# Altium footprint library c1210.PcbLib: 1 footprints
Each footprint in its own frame and in the unit in brackets; x right, y up, seen from the top. Pads: shape width x height; smd on the part's side, far side on the other; paste and mask are expansions set on the pad; w line width, h text height; cw(c..) or ccw(c..) is an arc to the next point about the centre after c.
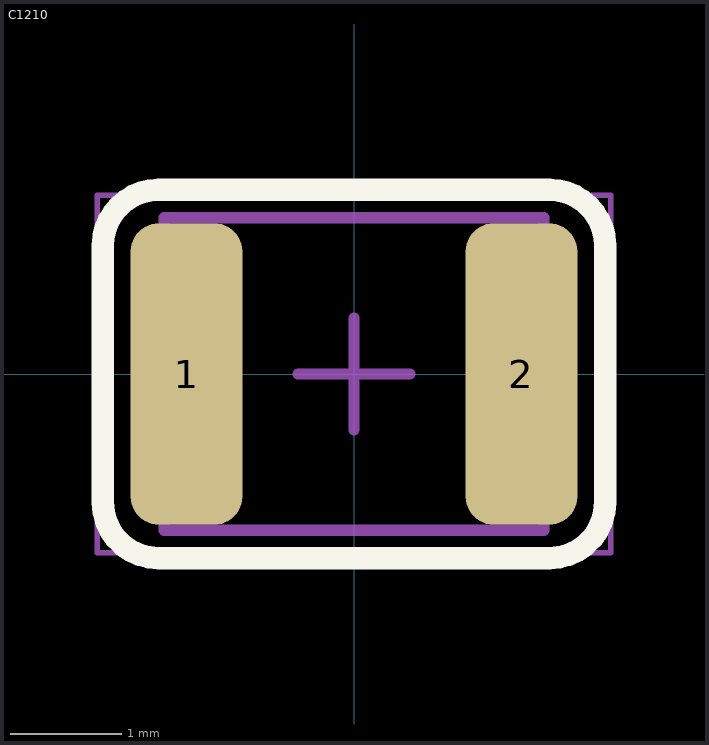
[diagram p0: the footprint, top view; thin cyan lines are the x and y axes]

## C1210 [mm] "Chip Capacitor, 2-Leads, Body 3,20x2,50mm, IPC Medium Density"
height 0.85
pads (2):
  rrect50% 1x2.7 smd: 1(-1.5,0) 2(1.5,0)
Top Overlay:
  lines w0.2: -2.25,-1.15 ccw(c-1.75,-1.15) -1.75,-1.65 1.75,-1.65 ccw(c1.75,-1.15) 2.25,-1.15 2.25,1.15 ccw(c1.75,1.15) 1.75,1.65 -1.75,1.65 ccw(c-1.75,1.15) -2.25,1.15 -2.25,-1.15
Top Comment:
  text ".Comment" at 1,2 h1.2
Top Designator:
  text ".Designator" at -0.5,2 h1.2
Top Component Outline:
  lines w0.1: -1.7,-1.4 1.7,-1.4 1.7,1.4 -1.7,1.4 -1.7,-1.4
Top Courtyard (Mech15):
  lines w0.05: -2.3,-1.6 -2.3,1.6 2.3,1.6 2.3,-1.6 -2.3,-1.6
  lines w0.1: -0.5,0 0.5,0 ; 0,-0.5 0,0.5
3D body "C1210.STEP": height 0.78, standoff 0, extent -1.6,-1.25 1.6,1.25